# Altium schematic symbol library EL-sense_Ferrite Beads.SchLib: 1 symbol
Pins are listed as number, name and electrical type; pins without a type are passive.

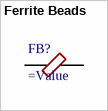
[diagram p0: symbol Ferrite Beads]

## Ferrite Beads
designator FB?
pins: 1, 2